# Altium footprint library L-PE-N_Connector_C-14.PcbLib: 1 footprints
Each footprint in its own frame and in the unit in brackets; x right, y up, seen from the top. Pads: shape width x height; smd on the part's side, far side on the other; paste and mask are expansions set on the pad; w line width, h text height; cw(c..) or ccw(c..) is an arc to the next point about the centre after c.

## PCBComponent_1 [mm]
3D body "Трапешка.STEP": height 5.4, standoff -18.04, extent -24.8,-17.85 24.8,13.8